# Altium schematic symbol library TB906.SCHLIB: 9 symbols
Pins are listed as number, name and electrical type; pins without a type are passive.

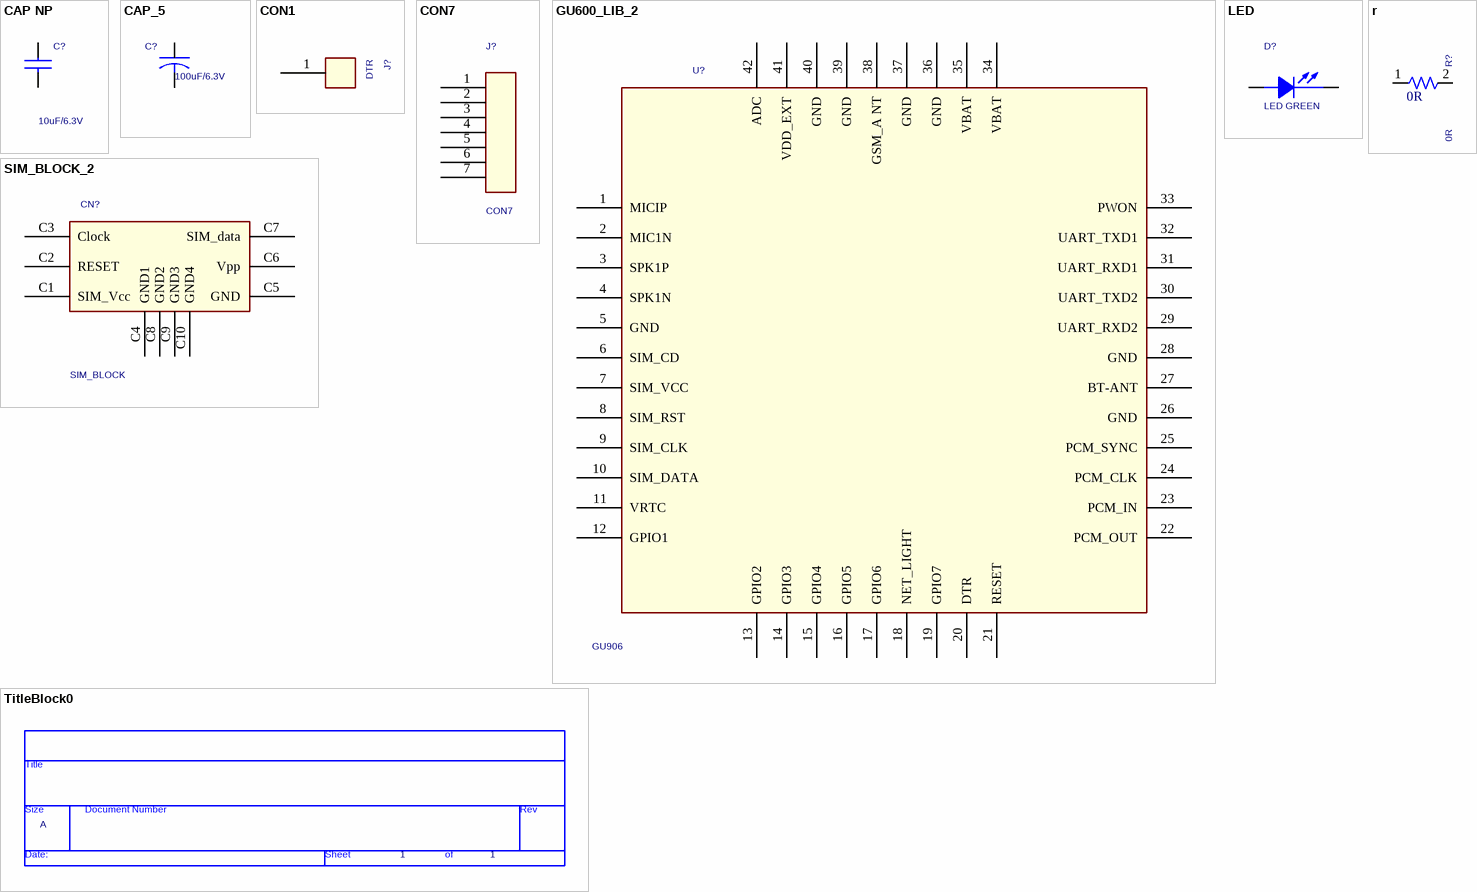
[diagram p0: symbols CAP NP to TitleBlock0]

## CAP NP
designator C?, comment 10uF/6.3V
footprint 0603
pins: 1, 2

## CAP_5
designator C?, comment 100uF/6.3V
Pic Spec: C1206
footprint 1210
pins: 1, 2

## CON1
designator J?, comment DTR
footprint TP60MIL
pins: 1

## CON7
designator J?
footprint SDIP_2.54_7P
pins: 1, 2, 3, 4, 5, 6, 7

## GU600_LIB_2
designator U?, comment GU906
footprint HFY_QFN_42_DTU
pins: 1 MICIP, 2 MIC1N, 3 SPK1P, 4 SPK1N, 5 GND, 6 SIM_CD, 7 SIM_VCC, 8 SIM_RST, 9 SIM_CLK, 10 SIM_DATA, 11 VRTC, 12 GPIO1, 13 GPIO2, 14 GPIO3, 15 GPIO4, 16 GPIO5, 17 GPIO6, 18 NET_LIGHT, 19 GPIO7, 20 DTR, 21 RESET, 22 PCM_OUT, 23 PCM_IN, 24 PCM_CLK, 25 PCM_SYNC, 26 GND, 27 BT-ANT, 28 GND, 29 UART_RXD2, 30 UART_TXD2, 31 UART_RXD1, 32 UART_TXD1, 33 PWON, 34 VBAT, 35 VBAT, 36 GND, 37 GND, 38 GSM_A NT, 39 GND, 40 GND, 41 VDD_EXT, 42 ADC

## LED
designator D?, comment LED GREEN
footprint D3.9_LED
pins: 1 ANODE, 2 CATHODE

## r
designator R?, comment 0R
PSpiceTemplate: R^@REFDES %1 %2 ?TOLERANCE|R^@REFDES| @VALUE  ?TOLERANCE|\n.model r^@REFDES RES R=1 DEV=@TOLERANCE%|; Value: 0R
footprint AX/RC05
simulation model R
footprint BT_F_ANT
pins: 1, 2

## SIM_BLOCK_2
designator CN?, comment SIM_BLOCK
footprint SIM_BLOCK
footprint C790-6P
pins: C1 SIM_Vcc, C2 RESET, C3 Clock, C4 GND1, C5 GND, C6 Vpp, C7 SIM_data, C8 GND2, C9 GND3, C10 GND4

## TitleBlock0
designator *?  Page Count: 1  Page Size: A  (hidden comment: TitleBlock0)  (graphical)
Page Number: 1; Page Create Date: March  8, 1995
text: Title; Size; Document Number; Rev; Date:; Sheet; of